# Altium schematic symbol library Header_Molex_87758-4416_44POS.SchLib: 1 symbol
Pins are listed as number, name and electrical type; pins without a type are passive.

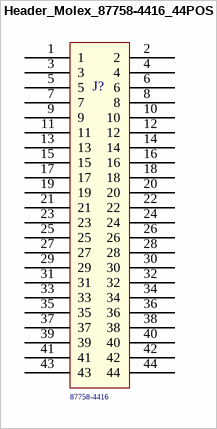
[diagram p0: symbol Header_Molex_87758-4416_44POS]

## Header_Molex_87758-4416_44POS
designator J?  Series: 87758-4416  (hidden comment: Header_Molex_87758-4416_44POS)
Headers & Wire Housings VERT HEADER 44P Lead Free; Supplier Part Number 1: 538-87758-4416; Supplier 1: Mouser
footprint Header_Molex_87758-4416_44POS
pins: 1, 2, 3, 4, 5, 6, 7, 8, 9, 10, 11, 12, 13, 14, 15, 16, 17, 18, 19, 20, 21, 22, 23, 24, 25, 26, 27, 28, 29, 30, 31, 32, 33, 34, 35, 36, 37, 38, 39, 40, 41, 42, 43, 44